# Altium footprint library R463I32204002M.PcbLib: 1 footprints
Each footprint in its own frame and in the unit in brackets; x right, y up, seen from the top. Pads: shape width x height; smd on the part's side, far side on the other; paste and mask are expansions set on the pad; w line width, h text height; cw(c..) or ccw(c..) is an arc to the next point about the centre after c.
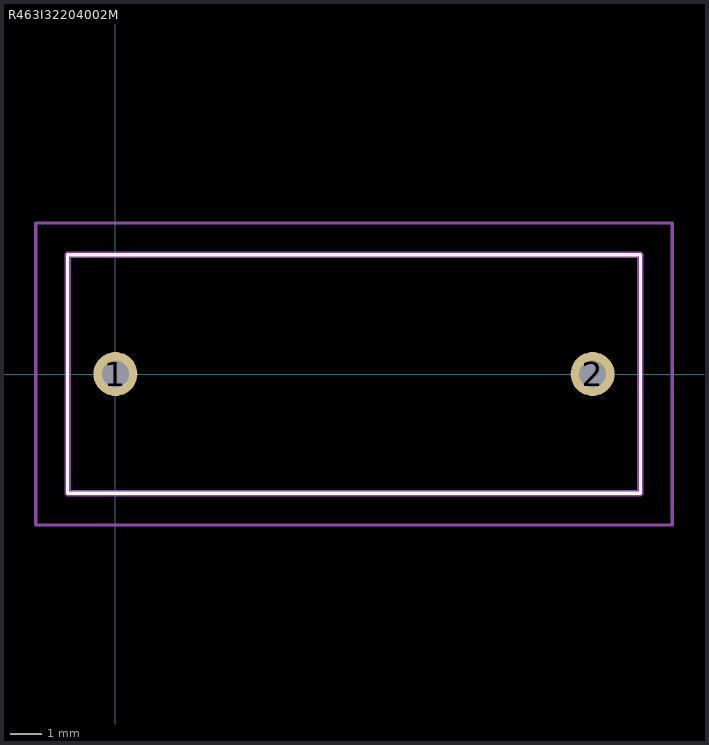
[diagram p0: the footprint, top view; thin cyan lines are the x and y axes]

## R463I32204002M [mm]
pads (2):
  round 1.381 hole 0.85: 1(0,0) 2(15,0)
Top Overlay:
  lines w0.1: -1.5,-3.75 16.5,-3.75 16.5,3.75 -1.5,3.75 -1.5,-3.75
Mechanical 15:
  lines w0.2: -1.5,-3.75 16.5,-3.75 16.5,3.75 -1.5,3.75 -1.5,-3.75
Mechanical 20:
  lines w0.1: -2.5,-4.75 17.5,-4.75 17.5,4.75 -2.5,4.75 -2.5,-4.75
3D body "R463I32204002M.stp": height 5.8, standoff -4.65, extent -10,-3.376 10,3.376